# EAGLE library part TXB0108 (library Kas-Buffers & Level Shifters)
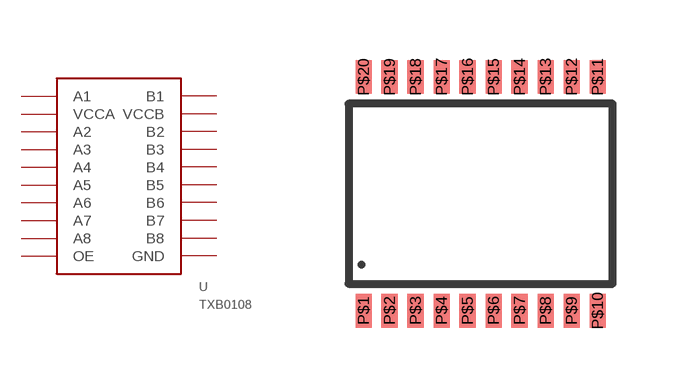
[diagram p0: symbol with the pads of TSSOP-(PW)-20; footprint TSSOP-(PW)-20]

Designator prefix -

## TXB0108  [TSSOP-(PW)-20]
P$1  A1
P$2  VCCA
P$3  A2
P$4  A3
P$5  A4
P$6  A5
P$7  A6
P$8  A7
P$9  A8
P$10  OE
P$11  GND
P$12  B8
P$13  B7
P$14  B6
P$15  B5
P$16  B4
P$17  B3
P$18  B2
P$19  VCCB
P$20  B1

## Footprint TSSOP-(PW)-20 (pad centres in mm)
smd 0.4 x 0.85: P$1 -2.925,-2.925; P$2 -2.275,-2.925; P$3 -1.625,-2.925; P$4 -0.975,-2.925; P$5 -0.325,-2.925; P$6 0.325,-2.925; P$7 0.975,-2.925; P$8 1.625,-2.925; P$9 2.275,-2.925; P$10 2.925,-2.925; P$11 2.925,2.925; P$12 2.275,2.925; P$13 1.625,2.925; P$14 0.975,2.925; P$15 0.325,2.925; P$16 -0.325,2.925; P$17 -0.975,2.925; P$18 -1.625,2.925; P$19 -2.275,2.925; P$20 -2.925,2.925